# Altium integrated library Microchip Power Management Voltage Detector.IntLib: 122 symbols (part 3 of 4)
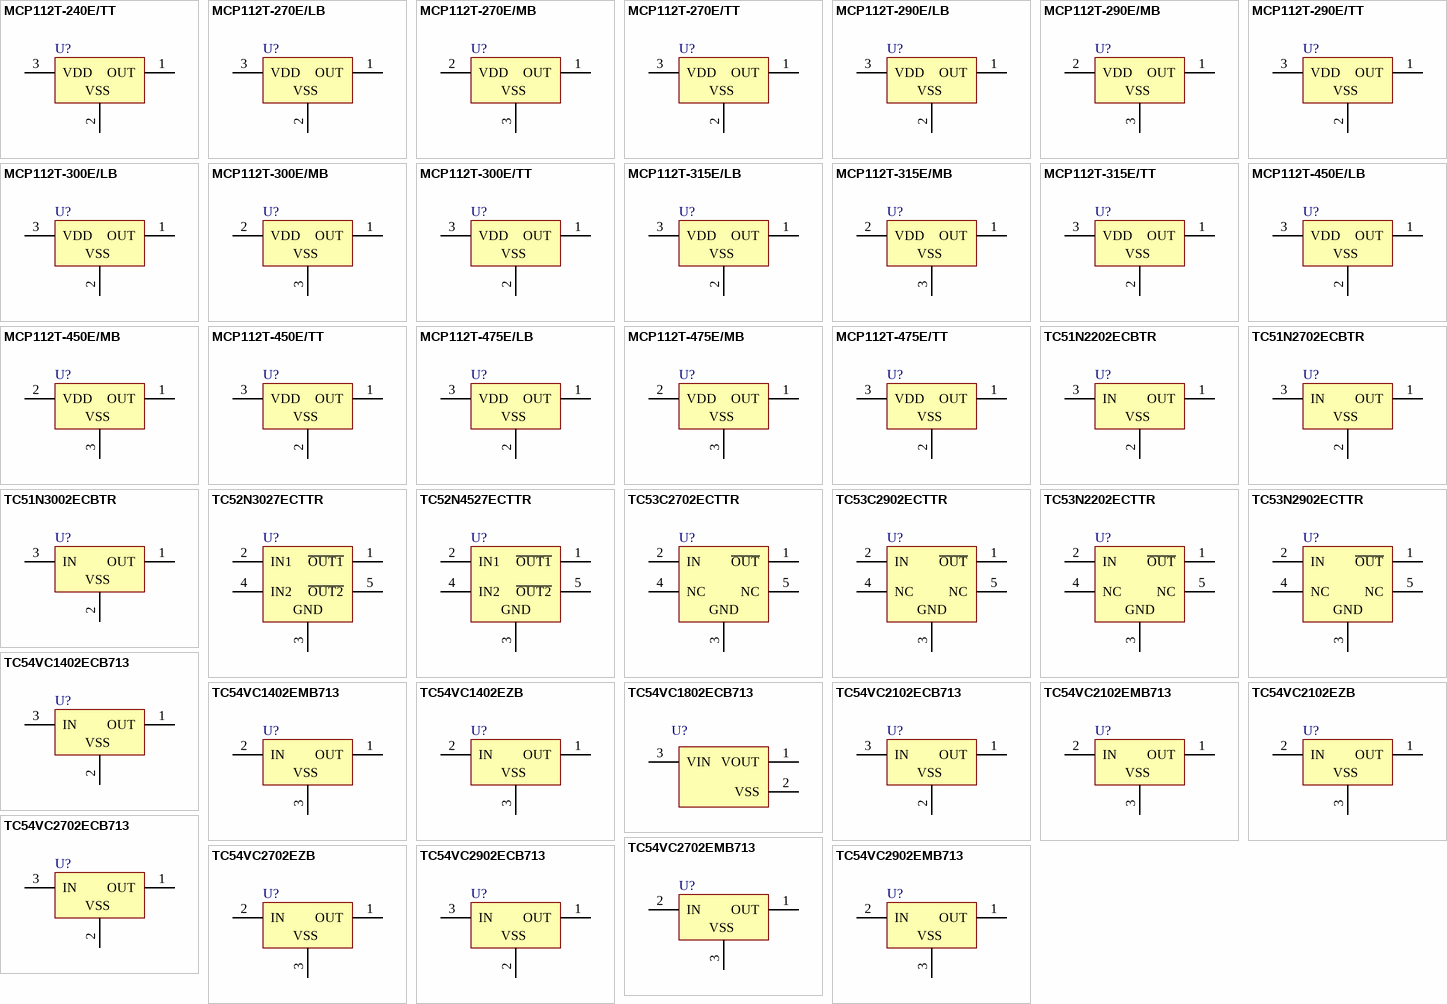
[diagram p5: symbols MCP112T-240E/TT to TC54VC2902EMB713]

## TC54VC2102ECB713
designator U?
1µA Voltage Detector, Push-Pull Output, 2.1V, 3-Pin SOT-23A, Industrial Temperature, Tape and Reel; Manufacturer: Microchip; PartNumber: TC54VC2102ECB713; DatasheetVersion: revH, Dec-2007; PackageVersion: revBB, Aug-2009; PackageReference: SOT-23A-CB3; PackageDescription: 3-Lead Plastic Small Outline Transistor (CB) [SOT-23A]; Supplier 1: Digi-Key; Supplier Part Number 1: TC54VC2102ECB713TR-ND; Supplier 2: Digi-Key; Supplier Part Number 2: TC54VC2102ECB713CT-ND; Supplier 3: Digi-Key; Supplier Part Number 3: TC54VC2102ECB713DKR-ND; Supplier 4: Farnell; Supplier Part Number 4: 1852219RL; Supplier 5: Farnell; Supplier Part Number 5: 1852219; Supplier 6: Newark; Supplier Part Number 6: 31T1381; Supplier 7: Newark; Supplier Part Number 7: 92C6249; Supplier 8: Mouser; Supplier Part Number 8: 579-TC54VC2102ECB713; Mounting Technology: Surface Mount; ComponentLink1Description: Manufacturer URL; ComponentLink1URL: http://www.microchip.com/; ComponentLink2Description: Datasheet; ComponentLink2URL: http://ww1.microchip.com/downloads/en/DeviceDoc/21434h.pdf; ComponentLink3Description: Package Specification; ComponentLink3URL: http://www.microchip.com/stellent/groups/techpub_sg/documents/packagingspec/en012702.pdf
footprint SOT-23A-CB3_N (SOT346, 3-Leads, Body 2.9x1.5mm, Pitch 0.95mm, Lead Span 2.6mm, IPC Medium Density)
footprint SOT-23A-CB3_L (SOT346, 3-Leads, Body 2.9x1.5mm, Pitch 0.95mm, Lead Span 2.6mm, IPC High Density)
footprint SOT-23A-CB3_M (SOT346, 3-Leads, Body 2.9x1.5mm, Pitch 0.95mm, Lead Span 2.6mm, IPC Low Density)
pins: 1 OUT (power), 2 VSS (power), 3 IN (power)

## TC54VC2102EMB713
designator U?
1µA Voltage Detector, Push-Pull Output, 2.1V, 3-Pin SOT-89, Industrial Temperature, Tape and Reel; Manufacturer: Microchip; PartNumber: TC54VC2102EMB713; DatasheetVersion: revH, Dec-2007; PackageVersion: revBB, Aug-2009; PackageReference: SOT-89-MB3; PackageDescription: 3-Lead Plastic Small Outline Transistor Header (MB) [SOT-89]; Supplier 1: Digi-Key; Supplier Part Number 1: TC54VC2102EMB713-ND; Supplier 2: Mouser; Supplier Part Number 2: 579-TC54VC2102EMB713; Mounting Technology: Surface Mount; Code_IPC: SOT89; ComponentLink1Description: Manufacturer URL; ComponentLink1URL: http://www.microchip.com/; ComponentLink2Description: Datasheet; ComponentLink2URL: http://ww1.microchip.com/downloads/en/DeviceDoc/21434h.pdf; ComponentLink3Description: Package Specification; ComponentLink3URL: http://www.microchip.com/stellent/groups/techpub_sg/documents/packagingspec/en012702.pdf
footprint SOT-89-MB3_N (SOT89, 3-Leads, Body 4.5x2.4 mm, Pitch 1.5mm, Lead Span 4.1mm, IPC Medium Density)
footprint SOT-89-MB3_L (SOT89, 3-Leads, Body 4.5x2.4 mm, Pitch 1.5mm, Lead Span 4.1mm, IPC High Density)
footprint SOT-89-MB3_M (SOT89, 3-Leads, Body 4.5x2.4 mm, Pitch 1.5mm, Lead Span 4.1mm, IPC Low Density)
pins: 1 OUT (power), 2 IN (power), 3 VSS (power)

## TC54VC2102EZB
designator U?
1µA Voltage Detector, Push-Pull Output, 2.1V, 3-Pin TO-92, Industrial Temperature; Manufacturer: Microchip; PartNumber: TC54VC2102EZB; DatasheetVersion: revH, Dec-2007; PackageVersion: revBB, Aug-2009; PackageReference: TO-92-ZB3; PackageDescription: 3-Lead Plastic Transistor Outline (ZB) [TO-92]; Supplier 1: Digi-Key; Supplier Part Number 1: TC54VC2102EZB-ND; Supplier 2: Farnell; Supplier Part Number 2: 1852221; Supplier 3: Newark; Supplier Part Number 3: 92C6251; Supplier 4: Mouser; Supplier Part Number 4: 579-TC54VC2102EZB; Mounting Technology: Through Hole; ComponentLink1Description: Manufacturer URL; ComponentLink1URL: http://www.microchip.com/; ComponentLink2Description: Datasheet; ComponentLink2URL: http://ww1.microchip.com/downloads/en/DeviceDoc/21434h.pdf; ComponentLink3Description: Package Specification; ComponentLink3URL: http://www.microchip.com/stellent/groups/techpub_sg/documents/packagingspec/en012702.pdf
footprint TO-92-ZB3 (TO, Flat Index; 3 In-Line, Axial Leads; Body Dia. 4.8mm; Leads 0.56 x 0.53 mm (max))
pins: 1 OUT (power), 2 IN (power), 3 VSS (power)

## TC54VC2702ECB713
designator U?
1µA Voltage Detector, Push-Pull Output, 2.7V, 3-Pin SOT-23A, Industrial Temperature, Tape and Reel; Manufacturer: Microchip; PartNumber: TC54VC2702ECB713; DatasheetVersion: revH, Dec-2007; PackageVersion: revBB, Aug-2009; PackageReference: SOT-23A-CB3; PackageDescription: 3-Lead Plastic Small Outline Transistor (CB) [SOT-23A]; Supplier 1: Digi-Key; Supplier Part Number 1: TC54VC2702ECB71TR-ND; Supplier 2: Digi-Key; Supplier Part Number 2: TC54VC2702ECB71CT-ND; Supplier 3: Digi-Key; Supplier Part Number 3: TC54VC2702ECB71DKR-ND; Supplier 4: Farnell; Supplier Part Number 4: 1557428; Supplier 5: Farnell; Supplier Part Number 5: 1557428RL; Supplier 6: Newark; Supplier Part Number 6: 92C6252; Supplier 7: Mouser; Supplier Part Number 7: 579-TC54VC2702ECB713; Mounting Technology: Surface Mount; ComponentLink1Description: Manufacturer URL; ComponentLink1URL: http://www.microchip.com/; ComponentLink2Description: Datasheet; ComponentLink2URL: http://ww1.microchip.com/downloads/en/DeviceDoc/21434h.pdf; ComponentLink3Description: Package Specification; ComponentLink3URL: http://www.microchip.com/stellent/groups/techpub_sg/documents/packagingspec/en012702.pdf
footprint SOT-23A-CB3_N (SOT346, 3-Leads, Body 2.9x1.5mm, Pitch 0.95mm, Lead Span 2.6mm, IPC Medium Density)
footprint SOT-23A-CB3_L (SOT346, 3-Leads, Body 2.9x1.5mm, Pitch 0.95mm, Lead Span 2.6mm, IPC High Density)
footprint SOT-23A-CB3_M (SOT346, 3-Leads, Body 2.9x1.5mm, Pitch 0.95mm, Lead Span 2.6mm, IPC Low Density)
pins: 1 OUT (power), 2 VSS (power), 3 IN (power)

## TC54VC2702EMB713
designator U?
1µA Voltage Detector, Push-Pull Output, 2.7V, 3-Pin SOT-89, Industrial Temperature, Tape and Reel; Manufacturer: Microchip; PartNumber: TC54VC2702EMB713; DatasheetVersion: revH, Dec-2007; PackageVersion: revBB, Aug-2009; PackageReference: SOT-89-MB3; PackageDescription: 3-Lead Plastic Small Outline Transistor Header (MB) [SOT-89]; Supplier 1: Digi-Key; Supplier Part Number 1: TC54VC2702EMB71TR-ND; Supplier 2: Digi-Key; Supplier Part Number 2: TC54VC2702EMB71CT-ND; Supplier 3: Mouser; Supplier Part Number 3: 579-TC54VC2702EMB713; Mounting Technology: Surface Mount; Code_IPC: SOT89; ComponentLink1Description: Manufacturer URL; ComponentLink1URL: http://www.microchip.com/; ComponentLink2Description: Datasheet; ComponentLink2URL: http://ww1.microchip.com/downloads/en/DeviceDoc/21434h.pdf; ComponentLink3Description: Package Specification; ComponentLink3URL: http://www.microchip.com/stellent/groups/techpub_sg/documents/packagingspec/en012702.pdf
footprint SOT-89-MB3_N (SOT89, 3-Leads, Body 4.5x2.4 mm, Pitch 1.5mm, Lead Span 4.1mm, IPC Medium Density)
footprint SOT-89-MB3_L (SOT89, 3-Leads, Body 4.5x2.4 mm, Pitch 1.5mm, Lead Span 4.1mm, IPC High Density)
footprint SOT-89-MB3_M (SOT89, 3-Leads, Body 4.5x2.4 mm, Pitch 1.5mm, Lead Span 4.1mm, IPC Low Density)
pins: 1 OUT (power), 2 IN (power), 3 VSS (power)

## TC54VC2702EZB
designator U?
1µA Voltage Detector, Push-Pull Output, 2.7V, 3-Pin TO-92, Industrial Temperature; Manufacturer: Microchip; PartNumber: TC54VC2702EZB; DatasheetVersion: revH, Dec-2007; PackageVersion: revBB, Aug-2009; PackageReference: TO-92-ZB3; PackageDescription: 3-Lead Plastic Transistor Outline (ZB) [TO-92]; Supplier 1: Digi-Key; Supplier Part Number 1: TC54VC2702EZB-ND; Supplier 2: Newark; Supplier Part Number 2: 92C6254; Supplier 3: Mouser; Supplier Part Number 3: 579-TC54VC2702EZB; Mounting Technology: Through Hole; ComponentLink1Description: Manufacturer URL; ComponentLink1URL: http://www.microchip.com/; ComponentLink2Description: Datasheet; ComponentLink2URL: http://ww1.microchip.com/downloads/en/DeviceDoc/21434h.pdf; ComponentLink3Description: Package Specification; ComponentLink3URL: http://www.microchip.com/stellent/groups/techpub_sg/documents/packagingspec/en012702.pdf
footprint TO-92-ZB3 (TO, Flat Index; 3 In-Line, Axial Leads; Body Dia. 4.8mm; Leads 0.56 x 0.53 mm (max))
pins: 1 OUT (power), 2 IN (power), 3 VSS (power)

## TC54VC2902ECB713
designator U?
1µA Voltage Detector, Push-Pull Output, 2.9V, 3-Pin SOT-23A, Industrial Temperature, Tape and Reel; Manufacturer: Microchip; PartNumber: TC54VC2902ECB713; DatasheetVersion: revH, Dec-2007; PackageVersion: revBB, Aug-2009; PackageReference: SOT-23A-CB3; PackageDescription: 3-Lead Plastic Small Outline Transistor (CB) [SOT-23A]; Supplier 1: Digi-Key; Supplier Part Number 1: TC54VC2902ECB71TR-ND; Supplier 2: Digi-Key; Supplier Part Number 2: TC54VC2902ECB71CT-ND; Supplier 3: Digi-Key; Supplier Part Number 3: TC54VC2902ECB71DKR-ND; Supplier 4: Farnell; Supplier Part Number 4: 1852223RL; Supplier 5: Farnell; Supplier Part Number 5: 1852223; Supplier 6: Newark; Supplier Part Number 6: 92C6255; Supplier 7: Newark; Supplier Part Number 7: 31T1382; Supplier 8: Mouser; Supplier Part Number 8: 579-TC54VC2902ECB713; Mounting Technology: Surface Mount; ComponentLink1Description: Manufacturer URL; ComponentLink1URL: http://www.microchip.com/; ComponentLink2Description: Datasheet; ComponentLink2URL: http://ww1.microchip.com/downloads/en/DeviceDoc/21434h.pdf; ComponentLink3Description: Package Specification; ComponentLink3URL: http://www.microchip.com/stellent/groups/techpub_sg/documents/packagingspec/en012702.pdf
footprint SOT-23A-CB3_N (SOT346, 3-Leads, Body 2.9x1.5mm, Pitch 0.95mm, Lead Span 2.6mm, IPC Medium Density)
footprint SOT-23A-CB3_L (SOT346, 3-Leads, Body 2.9x1.5mm, Pitch 0.95mm, Lead Span 2.6mm, IPC High Density)
footprint SOT-23A-CB3_M (SOT346, 3-Leads, Body 2.9x1.5mm, Pitch 0.95mm, Lead Span 2.6mm, IPC Low Density)
pins: 1 OUT (power), 2 VSS (power), 3 IN (power)

## TC54VC2902EMB713
designator U?
1µA Voltage Detector, Push-Pull Output, 2.9V, 3-Pin SOT-89, Industrial Temperature, Tape and Reel; Manufacturer: Microchip; PartNumber: TC54VC2902EMB713; DatasheetVersion: revH, Dec-2007; PackageVersion: revBB, Aug-2009; PackageReference: SOT-89-MB3; PackageDescription: 3-Lead Plastic Small Outline Transistor Header (MB) [SOT-89]; Supplier 1: Digi-Key; Supplier Part Number 1: TC54VC2902EMB71TR-ND; Supplier 2: Mouser; Supplier Part Number 2: 579-TC54VC2902EMB713; Mounting Technology: Surface Mount; Code_IPC: SOT89; ComponentLink1Description: Manufacturer URL; ComponentLink1URL: http://www.microchip.com/; ComponentLink2Description: Datasheet; ComponentLink2URL: http://ww1.microchip.com/downloads/en/DeviceDoc/21434h.pdf; ComponentLink3Description: Package Specification; ComponentLink3URL: http://www.microchip.com/stellent/groups/techpub_sg/documents/packagingspec/en012702.pdf
footprint SOT-89-MB3_N (SOT89, 3-Leads, Body 4.5x2.4 mm, Pitch 1.5mm, Lead Span 4.1mm, IPC Medium Density)
footprint SOT-89-MB3_L (SOT89, 3-Leads, Body 4.5x2.4 mm, Pitch 1.5mm, Lead Span 4.1mm, IPC High Density)
footprint SOT-89-MB3_M (SOT89, 3-Leads, Body 4.5x2.4 mm, Pitch 1.5mm, Lead Span 4.1mm, IPC Low Density)
pins: 1 OUT (power), 2 IN (power), 3 VSS (power)

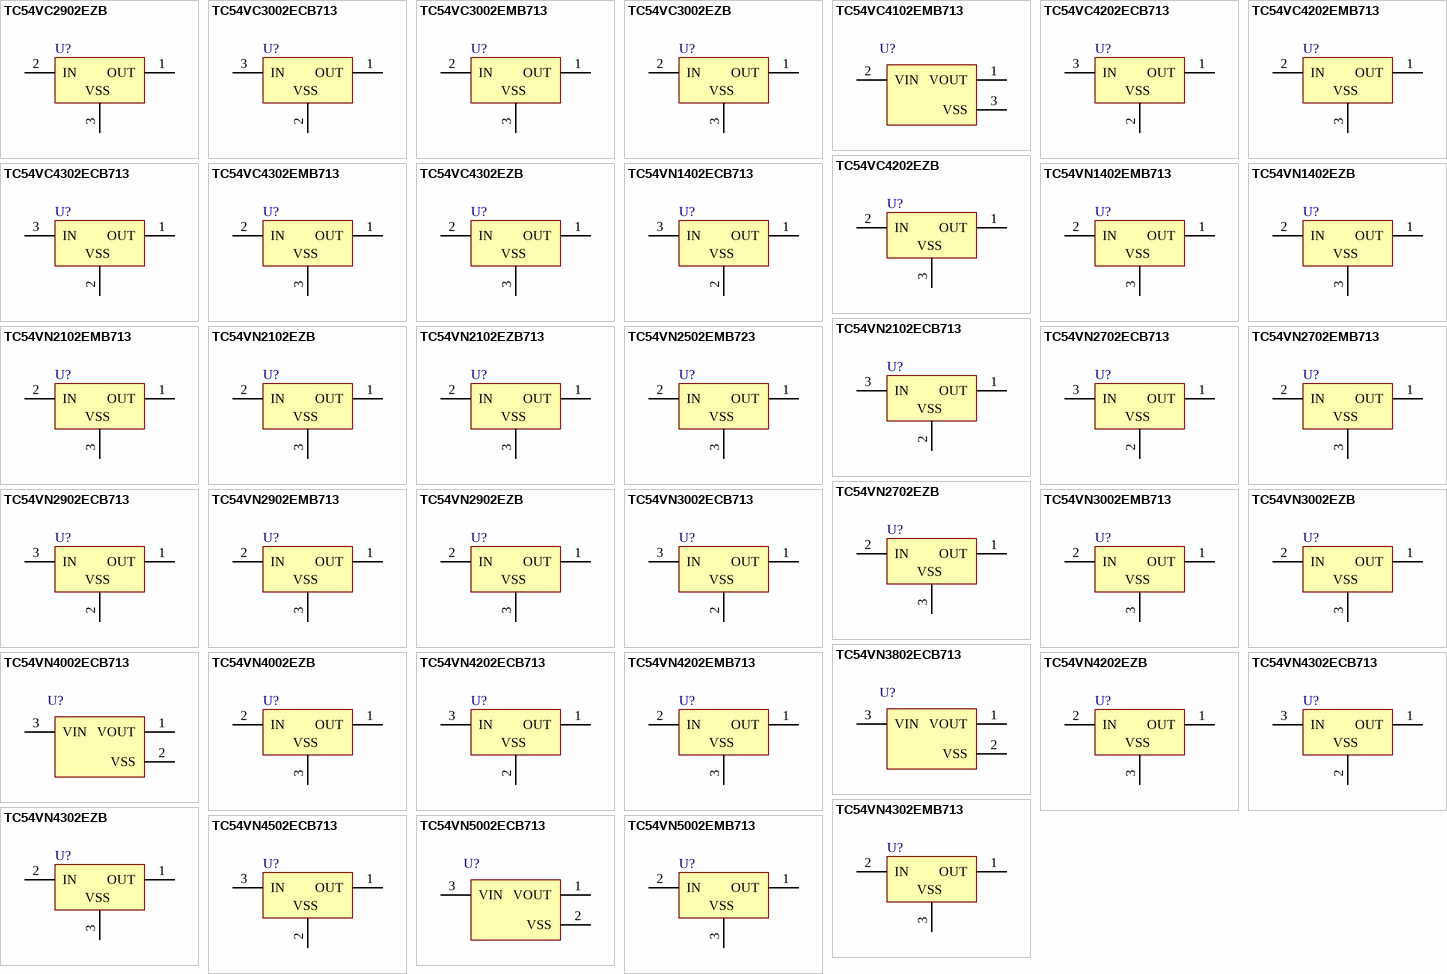
[diagram p2: symbols TC54VC2902EZB to TC54VN5002EMB713]

## TC54VC2902EZB
designator U?
1µA Voltage Detector, Push-Pull Output, 2.9V, 3-Pin TO-92, Industrial Temperature; Manufacturer: Microchip; PartNumber: TC54VC2902EZB; DatasheetVersion: revH, Dec-2007; PackageVersion: revBB, Aug-2009; PackageReference: TO-92-ZB3; PackageDescription: 3-Lead Plastic Transistor Outline (ZB) [TO-92]; Supplier 1: Digi-Key; Supplier Part Number 1: TC54VC2902EZB-ND; Supplier 2: Mouser; Supplier Part Number 2: 579-TC54VC2902EZB; Mounting Technology: Through Hole; ComponentLink1Description: Manufacturer URL; ComponentLink1URL: http://www.microchip.com/; ComponentLink2Description: Datasheet; ComponentLink2URL: http://ww1.microchip.com/downloads/en/DeviceDoc/21434h.pdf; ComponentLink3Description: Package Specification; ComponentLink3URL: http://www.microchip.com/stellent/groups/techpub_sg/documents/packagingspec/en012702.pdf
footprint TO-92-ZB3 (TO, Flat Index; 3 In-Line, Axial Leads; Body Dia. 4.8mm; Leads 0.56 x 0.53 mm (max))
pins: 1 OUT (power), 2 IN (power), 3 VSS (power)

## TC54VC3002ECB713
designator U?
1µA Voltage Detector, Push-Pull Output, 3.0V, 3-Pin SOT-23A, Industrial Temperature, Tape and Reel; Manufacturer: Microchip; PartNumber: TC54VC3002ECB713; DatasheetVersion: revH, Dec-2007; PackageVersion: revBB, Aug-2009; PackageReference: SOT-23A-CB3; PackageDescription: 3-Lead Plastic Small Outline Transistor (CB) [SOT-23A]; Supplier 1: Digi-Key; Supplier Part Number 1: TC54VC3002ECB713TR-ND; Supplier 2: Digi-Key; Supplier Part Number 2: TC54VC3002ECB713CT-ND; Supplier 3: Digi-Key; Supplier Part Number 3: TC54VC3002ECB713DKR-ND; Supplier 4: Farnell; Supplier Part Number 4: 1852224RL; Supplier 5: Farnell; Supplier Part Number 5: 1852224; Supplier 6: Newark; Supplier Part Number 6: 31T1383; Supplier 7: Newark; Supplier Part Number 7: 92C6257; Supplier 8: Mouser; Supplier Part Number 8: 579-TC54VC3002ECB713; Mounting Technology: Surface Mount; ComponentLink1Description: Manufacturer URL; ComponentLink1URL: http://www.microchip.com/; ComponentLink2Description: Datasheet; ComponentLink2URL: http://ww1.microchip.com/downloads/en/DeviceDoc/21434h.pdf; ComponentLink3Description: Package Specification; ComponentLink3URL: http://www.microchip.com/stellent/groups/techpub_sg/documents/packagingspec/en012702.pdf
footprint SOT-23A-CB3_N (SOT346, 3-Leads, Body 2.9x1.5mm, Pitch 0.95mm, Lead Span 2.6mm, IPC Medium Density)
footprint SOT-23A-CB3_L (SOT346, 3-Leads, Body 2.9x1.5mm, Pitch 0.95mm, Lead Span 2.6mm, IPC High Density)
footprint SOT-23A-CB3_M (SOT346, 3-Leads, Body 2.9x1.5mm, Pitch 0.95mm, Lead Span 2.6mm, IPC Low Density)
pins: 1 OUT (power), 2 VSS (power), 3 IN (power)

## TC54VC3002EMB713
designator U?
1µA Voltage Detector, Push-Pull Output, 3.0V, 3-Pin SOT-89, Industrial Temperature, Tape and Reel; Manufacturer: Microchip; PartNumber: TC54VC3002EMB713; DatasheetVersion: revH, Dec-2007; PackageVersion: revBB, Aug-2009; PackageReference: SOT-89-MB3; PackageDescription: 3-Lead Plastic Small Outline Transistor Header (MB) [SOT-89]; Supplier 1: Digi-Key; Supplier Part Number 1: TC54VC3002EMB713-ND; Supplier 2: Mouser; Supplier Part Number 2: 579-TC54VC3002EMB713; Mounting Technology: Surface Mount; Code_IPC: SOT89; ComponentLink1Description: Manufacturer URL; ComponentLink1URL: http://www.microchip.com/; ComponentLink2Description: Datasheet; ComponentLink2URL: http://ww1.microchip.com/downloads/en/DeviceDoc/21434h.pdf; ComponentLink3Description: Package Specification; ComponentLink3URL: http://www.microchip.com/stellent/groups/techpub_sg/documents/packagingspec/en012702.pdf
footprint SOT-89-MB3_N (SOT89, 3-Leads, Body 4.5x2.4 mm, Pitch 1.5mm, Lead Span 4.1mm, IPC Medium Density)
footprint SOT-89-MB3_L (SOT89, 3-Leads, Body 4.5x2.4 mm, Pitch 1.5mm, Lead Span 4.1mm, IPC High Density)
footprint SOT-89-MB3_M (SOT89, 3-Leads, Body 4.5x2.4 mm, Pitch 1.5mm, Lead Span 4.1mm, IPC Low Density)
pins: 1 OUT (power), 2 IN (power), 3 VSS (power)

## TC54VC3002EZB
designator U?
1µA Voltage Detector, Push-Pull Output, 3.0V, 3-Pin TO-92, Industrial Temperature; Manufacturer: Microchip; PartNumber: TC54VC3002EZB; DatasheetVersion: revH, Dec-2007; PackageVersion: revBB, Aug-2009; PackageReference: TO-92-ZB3; PackageDescription: 3-Lead Plastic Transistor Outline (ZB) [TO-92]; Supplier 1: Digi-Key; Supplier Part Number 1: TC54VC3002EZB-ND; Supplier 2: Farnell; Supplier Part Number 2: 1852225; Supplier 3: Newark; Supplier Part Number 3: 92C6259; Supplier 4: Mouser; Supplier Part Number 4: 579-TC54VC3002EZB; Mounting Technology: Through Hole; ComponentLink1Description: Manufacturer URL; ComponentLink1URL: http://www.microchip.com/; ComponentLink2Description: Datasheet; ComponentLink2URL: http://ww1.microchip.com/downloads/en/DeviceDoc/21434h.pdf; ComponentLink3Description: Package Specification; ComponentLink3URL: http://www.microchip.com/stellent/groups/techpub_sg/documents/packagingspec/en012702.pdf
footprint TO-92-ZB3 (TO, Flat Index; 3 In-Line, Axial Leads; Body Dia. 4.8mm; Leads 0.56 x 0.53 mm (max))
pins: 1 OUT (power), 2 IN (power), 3 VSS (power)

## TC54VC4102EMB713
designator U?
Voltage Detector, 0.2 ms Reset Pulse Width, Supply Current 1.1 uA, 0.7 to 10 V, -40 to 85 degC, 3-pin SOT-89 (MB3), Tape and Reel; Manufacturer: Microchip; PartNumber: TC54VC4102EMB713; DatasheetVersion: Rev. J; PackageVersion: C04-029B; PackageReference: SOT-89-MB3; PackageDescription: 3-Lead Plastic Small Outline Transistor Header, 4.5 x 2.45 mm Body, 1.5 mm Pitch; Supplier 1: Digi-Key; Supplier Part Number 1: TC54VC4102EMB713-ND; Supplier 2: Mouser; Supplier Part Number 2: 579-TC54VC4102EMB713; Mounting Technology: Surface Mount; ComponentLink1Description: Manufacturer URL; ComponentLink1URL: http://www.microchip.com; ComponentLink2Description: Datasheet; ComponentLink2URL: http://ww1.microchip.com/downloads/en/DeviceDoc/21434J.pdf; ComponentLink3Description: Package Specification; ComponentLink3URL: http://www.microchip.com/stellent/groups/techpub_sg/documents/packagingspec/en012702.pdf; ComponentLink4Description: Product URL; ComponentLink4URL: http://www.microchip.com/TC54
footprint MCHP-SOT-89-MB3_N (SOT89, 3-Leads, Body 4.5x2.45mm, Pitch 1.5mm, IPC Medium Density)
footprint MCHP-SOT-89-MB3_L (SOT89, 3-Leads, Body 4.5x2.45mm, Pitch 1.5mm, IPC High Density)
footprint MCHP-SOT-89-MB3_M (SOT89, 3-Leads, Body 4.5x2.45mm, Pitch 1.5mm, IPC Low Density)
pins: 1 VOUT (power) "Digital Output", 2 VIN (power) "Analog Input", 3 VSS (power) "Ground Terminal"

## TC54VC4202ECB713
designator U?
1µA Voltage Detector, Push-Pull Output, 4.2V, 3-Pin SOT-23A, Industrial Temperature, Tape and Reel; Manufacturer: Microchip; PartNumber: TC54VC4202ECB713; DatasheetVersion: revH, Dec-2007; PackageVersion: revBB, Aug-2009; PackageReference: SOT-23A-CB3; PackageDescription: 3-Lead Plastic Small Outline Transistor (CB) [SOT-23A]; Supplier 1: Digi-Key; Supplier Part Number 1: TC54VC4202ECB713-ND; Supplier 2: Mouser; Supplier Part Number 2: 579-TC54VC4202ECB713; Mounting Technology: Surface Mount; ComponentLink1Description: Manufacturer URL; ComponentLink1URL: http://www.microchip.com/; ComponentLink2Description: Datasheet; ComponentLink2URL: http://ww1.microchip.com/downloads/en/DeviceDoc/21434h.pdf; ComponentLink3Description: Package Specification; ComponentLink3URL: http://www.microchip.com/stellent/groups/techpub_sg/documents/packagingspec/en012702.pdf
footprint SOT-23A-CB3_N (SOT346, 3-Leads, Body 2.9x1.5mm, Pitch 0.95mm, Lead Span 2.6mm, IPC Medium Density)
footprint SOT-23A-CB3_L (SOT346, 3-Leads, Body 2.9x1.5mm, Pitch 0.95mm, Lead Span 2.6mm, IPC High Density)
footprint SOT-23A-CB3_M (SOT346, 3-Leads, Body 2.9x1.5mm, Pitch 0.95mm, Lead Span 2.6mm, IPC Low Density)
pins: 1 OUT (power), 2 VSS (power), 3 IN (power)

## TC54VC4202EMB713
designator U?
1µA Voltage Detector, Push-Pull Output, 4.2V, 3-Pin SOT-89, Industrial Temperature, Tape and Reel; Manufacturer: Microchip; PartNumber: TC54VC4202EMB713; DatasheetVersion: revH, Dec-2007; PackageVersion: revBB, Aug-2009; PackageReference: SOT-89-MB3; PackageDescription: 3-Lead Plastic Small Outline Transistor Header (MB) [SOT-89]; Supplier 1: Digi-Key; Supplier Part Number 1: TC54VC4202EMB713-ND; Supplier 2: Mouser; Supplier Part Number 2: 579-TC54VC4202EMB713; Mounting Technology: Surface Mount; Code_IPC: SOT89; ComponentLink1Description: Manufacturer URL; ComponentLink1URL: http://www.microchip.com/; ComponentLink2Description: Datasheet; ComponentLink2URL: http://ww1.microchip.com/downloads/en/DeviceDoc/21434h.pdf; ComponentLink3Description: Package Specification; ComponentLink3URL: http://www.microchip.com/stellent/groups/techpub_sg/documents/packagingspec/en012702.pdf
footprint SOT-89-MB3_N (SOT89, 3-Leads, Body 4.5x2.4 mm, Pitch 1.5mm, Lead Span 4.1mm, IPC Medium Density)
footprint SOT-89-MB3_L (SOT89, 3-Leads, Body 4.5x2.4 mm, Pitch 1.5mm, Lead Span 4.1mm, IPC High Density)
footprint SOT-89-MB3_M (SOT89, 3-Leads, Body 4.5x2.4 mm, Pitch 1.5mm, Lead Span 4.1mm, IPC Low Density)
pins: 1 OUT (power), 2 IN (power), 3 VSS (power)

## TC54VC4202EZB
designator U?
1µA Voltage Detector, Push-Pull Output, 4.2V, 3-Pin TO-92, Industrial Temperature; Manufacturer: Microchip; PartNumber: TC54VC4202EZB; DatasheetVersion: revH, Dec-2007; PackageVersion: revBB, Aug-2009; PackageReference: TO-92-ZB3; PackageDescription: 3-Lead Plastic Transistor Outline (ZB) [TO-92]; Supplier 1: Digi-Key; Supplier Part Number 1: TC54VC4202EZB-ND; Supplier 2: Mouser; Supplier Part Number 2: 579-TC54VC4202EZB; Mounting Technology: Through Hole; ComponentLink1Description: Manufacturer URL; ComponentLink1URL: http://www.microchip.com/; ComponentLink2Description: Datasheet; ComponentLink2URL: http://ww1.microchip.com/downloads/en/DeviceDoc/21434h.pdf; ComponentLink3Description: Package Specification; ComponentLink3URL: http://www.microchip.com/stellent/groups/techpub_sg/documents/packagingspec/en012702.pdf
footprint TO-92-ZB3 (TO, Flat Index; 3 In-Line, Axial Leads; Body Dia. 4.8mm; Leads 0.56 x 0.53 mm (max))
pins: 1 OUT (power), 2 IN (power), 3 VSS (power)

## TC54VC4302ECB713
designator U?
1µA Voltage Detector, Push-Pull Output, 4.3V, 3-Pin SOT-23A, Industrial Temperature, Tape and Reel; Manufacturer: Microchip; PartNumber: TC54VC4302ECB713; DatasheetVersion: revH, Dec-2007; PackageVersion: revBB, Aug-2009; PackageReference: SOT-23A-CB3; PackageDescription: 3-Lead Plastic Small Outline Transistor (CB) [SOT-23A]; Supplier 1: Digi-Key; Supplier Part Number 1: TC54VC4302ECB71TR-ND; Supplier 2: Digi-Key; Supplier Part Number 2: TC54VC4302ECB71CT-ND; Supplier 3: Digi-Key; Supplier Part Number 3: TC54VC4302ECB71DKR-ND; Supplier 4: Farnell; Supplier Part Number 4: 1467834RL; Supplier 5: Farnell; Supplier Part Number 5: 1467834; Supplier 6: Newark; Supplier Part Number 6: 92C3492; Supplier 7: Mouser; Supplier Part Number 7: 579-TC54VC4302ECB713; Mounting Technology: Surface Mount; ComponentLink1Description: Manufacturer URL; ComponentLink1URL: http://www.microchip.com/; ComponentLink2Description: Datasheet; ComponentLink2URL: http://ww1.microchip.com/downloads/en/DeviceDoc/21434h.pdf; ComponentLink3Description: Package Specification; ComponentLink3URL: http://www.microchip.com/stellent/groups/techpub_sg/documents/packagingspec/en012702.pdf
footprint SOT-23A-CB3_N (SOT346, 3-Leads, Body 2.9x1.5mm, Pitch 0.95mm, Lead Span 2.6mm, IPC Medium Density)
footprint SOT-23A-CB3_L (SOT346, 3-Leads, Body 2.9x1.5mm, Pitch 0.95mm, Lead Span 2.6mm, IPC High Density)
footprint SOT-23A-CB3_M (SOT346, 3-Leads, Body 2.9x1.5mm, Pitch 0.95mm, Lead Span 2.6mm, IPC Low Density)
pins: 1 OUT (power), 2 VSS (power), 3 IN (power)

## TC54VC4302EMB713
designator U?
1µA Voltage Detector, Push-Pull Output, 4.3V, 3-Pin SOT-89, Industrial Temperature, Tape and Reel; Manufacturer: Microchip; PartNumber: TC54VC4302EMB713; DatasheetVersion: revH, Dec-2007; PackageVersion: revBB, Aug-2009; PackageReference: SOT-89-MB3; PackageDescription: 3-Lead Plastic Small Outline Transistor Header (MB) [SOT-89]; Supplier 1: Digi-Key; Supplier Part Number 1: TC54VC4302EMB71TR-ND; Supplier 2: Digi-Key; Supplier Part Number 2: TC54VC4302EMB71CT-ND; Supplier 3: Digi-Key; Supplier Part Number 3: TC54VC4302EMB71DKR-ND; Supplier 4: Newark; Supplier Part Number 4: 92C6263; Supplier 5: Mouser; Supplier Part Number 5: 579-TC54VC4302EMB713; Mounting Technology: Surface Mount; Code_IPC: SOT89; ComponentLink1Description: Manufacturer URL; ComponentLink1URL: http://www.microchip.com/; ComponentLink2Description: Datasheet; ComponentLink2URL: http://ww1.microchip.com/downloads/en/DeviceDoc/21434h.pdf; ComponentLink3Description: Package Specification; ComponentLink3URL: http://www.microchip.com/stellent/groups/techpub_sg/documents/packagingspec/en012702.pdf
footprint SOT-89-MB3_N (SOT89, 3-Leads, Body 4.5x2.4 mm, Pitch 1.5mm, Lead Span 4.1mm, IPC Medium Density)
footprint SOT-89-MB3_L (SOT89, 3-Leads, Body 4.5x2.4 mm, Pitch 1.5mm, Lead Span 4.1mm, IPC High Density)
footprint SOT-89-MB3_M (SOT89, 3-Leads, Body 4.5x2.4 mm, Pitch 1.5mm, Lead Span 4.1mm, IPC Low Density)
pins: 1 OUT (power), 2 IN (power), 3 VSS (power)

## TC54VC4302EZB
designator U?
1µA Voltage Detector, Push-Pull Output, 4.3V, 3-Pin TO-92, Industrial Temperature; Manufacturer: Microchip; PartNumber: TC54VC4302EZB; DatasheetVersion: revH, Dec-2007; PackageVersion: revBB, Aug-2009; PackageReference: TO-92-ZB3; PackageDescription: 3-Lead Plastic Transistor Outline (ZB) [TO-92]; Supplier 1: Digi-Key; Supplier Part Number 1: TC54VC4302EZB-ND; Supplier 2: Farnell; Supplier Part Number 2: 1852226; Supplier 3: Newark; Supplier Part Number 3: 92C6264; Supplier 4: Mouser; Supplier Part Number 4: 579-TC54VC4302EZB; Mounting Technology: Through Hole; ComponentLink1Description: Manufacturer URL; ComponentLink1URL: http://www.microchip.com/; ComponentLink2Description: Datasheet; ComponentLink2URL: http://ww1.microchip.com/downloads/en/DeviceDoc/21434h.pdf; ComponentLink3Description: Package Specification; ComponentLink3URL: http://www.microchip.com/stellent/groups/techpub_sg/documents/packagingspec/en012702.pdf
footprint TO-92-ZB3 (TO, Flat Index; 3 In-Line, Axial Leads; Body Dia. 4.8mm; Leads 0.56 x 0.53 mm (max))
pins: 1 OUT (power), 2 IN (power), 3 VSS (power)

## TC54VN1402ECB713
designator U?
1µA Voltage Detector, Open-Drain Output, 1.4V, 3-Pin SOT-23A, Industrial Temperature, Tape and Reel; Manufacturer: Microchip; PartNumber: TC54VN1402ECB713; DatasheetVersion: revH, Dec-2007; PackageVersion: revBB, Aug-2009; PackageReference: SOT-23A-CB3; PackageDescription: 3-Lead Plastic Small Outline Transistor (CB) [SOT-23A]; Supplier 1: Digi-Key; Supplier Part Number 1: TC54VN1402ECB713TR-ND; Supplier 2: Digi-Key; Supplier Part Number 2: TC54VN1402ECB713CT-ND; Supplier 3: Digi-Key; Supplier Part Number 3: TC54VN1402ECB713DKR-ND; Supplier 4: Farnell; Supplier Part Number 4: 1852228; Supplier 5: Farnell; Supplier Part Number 5: 1852228RL; Supplier 6: Newark; Supplier Part Number 6: 31T1385; Supplier 7: Newark; Supplier Part Number 7: 92C6271; Supplier 8: Mouser; Supplier Part Number 8: 579-TC54VN1402ECB713; Mounting Technology: Surface Mount; ComponentLink1Description: Manufacturer URL; ComponentLink1URL: http://www.microchip.com/; ComponentLink2Description: Datasheet; ComponentLink2URL: http://ww1.microchip.com/downloads/en/DeviceDoc/21434h.pdf; ComponentLink3Description: Package Specification; ComponentLink3URL: http://www.microchip.com/stellent/groups/techpub_sg/documents/packagingspec/en012702.pdf
footprint SOT-23A-CB3_N (SOT346, 3-Leads, Body 2.9x1.5mm, Pitch 0.95mm, Lead Span 2.6mm, IPC Medium Density)
footprint SOT-23A-CB3_L (SOT346, 3-Leads, Body 2.9x1.5mm, Pitch 0.95mm, Lead Span 2.6mm, IPC High Density)
footprint SOT-23A-CB3_M (SOT346, 3-Leads, Body 2.9x1.5mm, Pitch 0.95mm, Lead Span 2.6mm, IPC Low Density)
pins: 1 OUT (power), 2 VSS (power), 3 IN (power)

## TC54VN1402EMB713
designator U?
1µA Voltage Detector, Open-Drain Output, 1.4V, 3-Pin SOT-89, Industrial Temperature, Tape and Reel; Manufacturer: Microchip; PartNumber: TC54VN1402EMB713; DatasheetVersion: revH, Dec-2007; PackageVersion: revBB, Aug-2009; PackageReference: SOT-89-MB3; PackageDescription: 3-Lead Plastic Small Outline Transistor Header (MB) [SOT-89]; Supplier 1: Digi-Key; Supplier Part Number 1: TC54VN1402EMB713-ND; Supplier 2: Mouser; Supplier Part Number 2: 579-TC54VN1402EMB713; Mounting Technology: Surface Mount; Code_IPC: SOT89; ComponentLink1Description: Manufacturer URL; ComponentLink1URL: http://www.microchip.com/; ComponentLink2Description: Datasheet; ComponentLink2URL: http://ww1.microchip.com/downloads/en/DeviceDoc/21434h.pdf; ComponentLink3Description: Package Specification; ComponentLink3URL: http://www.microchip.com/stellent/groups/techpub_sg/documents/packagingspec/en012702.pdf
footprint SOT-89-MB3_N (SOT89, 3-Leads, Body 4.5x2.4 mm, Pitch 1.5mm, Lead Span 4.1mm, IPC Medium Density)
footprint SOT-89-MB3_L (SOT89, 3-Leads, Body 4.5x2.4 mm, Pitch 1.5mm, Lead Span 4.1mm, IPC High Density)
footprint SOT-89-MB3_M (SOT89, 3-Leads, Body 4.5x2.4 mm, Pitch 1.5mm, Lead Span 4.1mm, IPC Low Density)
pins: 1 OUT (power), 2 IN (power), 3 VSS (power)

## TC54VN1402EZB
designator U?
1µA Voltage Detector, Open-Drain Output, 1.4V, 3-Pin TO-92, Industrial Temperature; Manufacturer: Microchip; PartNumber: TC54VN1402EZB; DatasheetVersion: revH, Dec-2007; PackageVersion: revBB, Aug-2009; PackageReference: TO-92-ZB3; PackageDescription: 3-Lead Plastic Transistor Outline (ZB) [TO-92]; Supplier 1: Digi-Key; Supplier Part Number 1: TC54VN1402EZB-ND; Supplier 2: Farnell; Supplier Part Number 2: 1852229; Supplier 3: Newark; Supplier Part Number 3: 92C6273; Supplier 4: Mouser; Supplier Part Number 4: 579-TC54VN1402EZB; Mounting Technology: Through Hole; ComponentLink1Description: Manufacturer URL; ComponentLink1URL: http://www.microchip.com/; ComponentLink2Description: Datasheet; ComponentLink2URL: http://ww1.microchip.com/downloads/en/DeviceDoc/21434h.pdf; ComponentLink3Description: Package Specification; ComponentLink3URL: http://www.microchip.com/stellent/groups/techpub_sg/documents/packagingspec/en012702.pdf
footprint TO-92-ZB3 (TO, Flat Index; 3 In-Line, Axial Leads; Body Dia. 4.8mm; Leads 0.56 x 0.53 mm (max))
pins: 1 OUT (power), 2 IN (power), 3 VSS (power)

## TC54VN2102ECB713
designator U?
1µA Voltage Detector, Open-Drain Output, 2.1V, 3-Pin SOT-23A, Industrial Temperature, Tape and Reel; Manufacturer: Microchip; PartNumber: TC54VN2102ECB713; DatasheetVersion: revH, Dec-2007; PackageVersion: revBB, Aug-2009; PackageReference: SOT-23A-CB3; PackageDescription: 3-Lead Plastic Small Outline Transistor (CB) [SOT-23A]; Supplier 1: Digi-Key; Supplier Part Number 1: TC54VN2102ECB713TR-ND; Supplier 2: Digi-Key; Supplier Part Number 2: TC54VN2102ECB713CT-ND; Supplier 3: Digi-Key; Supplier Part Number 3: TC54VN2102ECB713DKR-ND; Supplier 4: Farnell; Supplier Part Number 4: 1852230; Supplier 5: Farnell; Supplier Part Number 5: 1852230RL; Supplier 6: Newark; Supplier Part Number 6: 31T1386; Supplier 7: Newark; Supplier Part Number 7: 92C6274; Supplier 8: Mouser; Supplier Part Number 8: 579-TC54VN2102ECB713; Mounting Technology: Surface Mount; ComponentLink1Description: Manufacturer URL; ComponentLink1URL: http://www.microchip.com/; ComponentLink2Description: Datasheet; ComponentLink2URL: http://ww1.microchip.com/downloads/en/DeviceDoc/21434h.pdf; ComponentLink3Description: Package Specification; ComponentLink3URL: http://www.microchip.com/stellent/groups/techpub_sg/documents/packagingspec/en012702.pdf
footprint SOT-23A-CB3_N (SOT346, 3-Leads, Body 2.9x1.5mm, Pitch 0.95mm, Lead Span 2.6mm, IPC Medium Density)
footprint SOT-23A-CB3_L (SOT346, 3-Leads, Body 2.9x1.5mm, Pitch 0.95mm, Lead Span 2.6mm, IPC High Density)
footprint SOT-23A-CB3_M (SOT346, 3-Leads, Body 2.9x1.5mm, Pitch 0.95mm, Lead Span 2.6mm, IPC Low Density)
pins: 1 OUT (power), 2 VSS (power), 3 IN (power)

## TC54VN2102EMB713
designator U?
1µA Voltage Detector, Open-Drain Output, 2.1V, 3-Pin SOT-89, Industrial Temperature, Tape and Reel; Manufacturer: Microchip; PartNumber: TC54VN2102EMB713; DatasheetVersion: revH, Dec-2007; PackageVersion: revBB, Aug-2009; PackageReference: SOT-89-MB3; PackageDescription: 3-Lead Plastic Small Outline Transistor Header (MB) [SOT-89]; Supplier 1: Digi-Key; Supplier Part Number 1: TC54VN2102EMB71TR-ND; Supplier 2: Mouser; Supplier Part Number 2: 579-TC54VN2102EMB713; Mounting Technology: Surface Mount; Code_IPC: SOT89; ComponentLink1Description: Manufacturer URL; ComponentLink1URL: http://www.microchip.com/; ComponentLink2Description: Datasheet; ComponentLink2URL: http://ww1.microchip.com/downloads/en/DeviceDoc/21434h.pdf; ComponentLink3Description: Package Specification; ComponentLink3URL: http://www.microchip.com/stellent/groups/techpub_sg/documents/packagingspec/en012702.pdf
footprint SOT-89-MB3_N (SOT89, 3-Leads, Body 4.5x2.4 mm, Pitch 1.5mm, Lead Span 4.1mm, IPC Medium Density)
footprint SOT-89-MB3_L (SOT89, 3-Leads, Body 4.5x2.4 mm, Pitch 1.5mm, Lead Span 4.1mm, IPC High Density)
footprint SOT-89-MB3_M (SOT89, 3-Leads, Body 4.5x2.4 mm, Pitch 1.5mm, Lead Span 4.1mm, IPC Low Density)
pins: 1 OUT (power), 2 IN (power), 3 VSS (power)

## TC54VN2102EZB
designator U?
1µA Voltage Detector, Open-Drain Output, 2.1V, 3-Pin TO-92, Industrial Temperature; Manufacturer: Microchip; PartNumber: TC54VN2102EZB; DatasheetVersion: revH, Dec-2007; PackageVersion: revBB, Aug-2009; PackageReference: TO-92-ZB3; PackageDescription: 3-Lead Plastic Transistor Outline (ZB) [TO-92]; Supplier 1: Digi-Key; Supplier Part Number 1: TC54VN2102EZB-ND; Supplier 2: Farnell; Supplier Part Number 2: 1852232; Supplier 3: Newark; Supplier Part Number 3: 92C6276; Supplier 4: Mouser; Supplier Part Number 4: 579-TC54VN2102EZB; Mounting Technology: Through Hole; ComponentLink1Description: Manufacturer URL; ComponentLink1URL: http://www.microchip.com/; ComponentLink2Description: Datasheet; ComponentLink2URL: http://ww1.microchip.com/downloads/en/DeviceDoc/21434h.pdf; ComponentLink3Description: Package Specification; ComponentLink3URL: http://www.microchip.com/stellent/groups/techpub_sg/documents/packagingspec/en012702.pdf
footprint TO-92-ZB3 (TO, Flat Index; 3 In-Line, Axial Leads; Body Dia. 4.8mm; Leads 0.56 x 0.53 mm (max))
pins: 1 OUT (power), 2 IN (power), 3 VSS (power)

## TC54VN2102EZB713
designator U?
1µA Voltage Detector, Open-Drain Output, 2.1V, 3-Pin TO-92, Industrial Temperature, Tape and Reel; Manufacturer: Microchip; PartNumber: TC54VN2102EZB713; DatasheetVersion: revH, Dec-2007; PackageVersion: revBB, Aug-2009; PackageReference: TO-92-ZB3; PackageDescription: 3-Lead Plastic Transistor Outline (ZB) [TO-92]; Mounting Technology: Through Hole; ComponentLink1Description: Manufacturer URL; ComponentLink1URL: http://www.microchip.com/; ComponentLink2Description: Datasheet; ComponentLink2URL: http://ww1.microchip.com/downloads/en/DeviceDoc/21434h.pdf; ComponentLink3Description: Package Specification; ComponentLink3URL: http://www.microchip.com/stellent/groups/techpub_sg/documents/packagingspec/en012702.pdf
footprint TO-92-ZB3 (TO, Flat Index; 3 In-Line, Axial Leads; Body Dia. 4.8mm; Leads 0.56 x 0.53 mm (max))
pins: 1 OUT (power), 2 IN (power), 3 VSS (power)

## TC54VN2502EMB723
designator U?
1µA Voltage Detector, Open-Drain Output, 2.5V, 3-Pin SOT-89, Industrial Temperature, RV, Tape and Reel; Manufacturer: Microchip; PartNumber: TC54VN2502EMB723; DatasheetVersion: revH, Dec-2007; PackageVersion: revBB, Aug-2009; PackageReference: SOT-89-MB3; PackageDescription: 3-Lead Plastic Small Outline Transistor Header (MB) [SOT-89]; Mounting Technology: Surface Mount; Code_IPC: SOT89; ComponentLink1Description: Manufacturer URL; ComponentLink1URL: http://www.microchip.com/; ComponentLink2Description: Datasheet; ComponentLink2URL: http://ww1.microchip.com/downloads/en/DeviceDoc/21434h.pdf; ComponentLink3Description: Package Specification; ComponentLink3URL: http://www.microchip.com/stellent/groups/techpub_sg/documents/packagingspec/en012702.pdf
footprint SOT-89-MB3_N (SOT89, 3-Leads, Body 4.5x2.4 mm, Pitch 1.5mm, Lead Span 4.1mm, IPC Medium Density)
footprint SOT-89-MB3_L (SOT89, 3-Leads, Body 4.5x2.4 mm, Pitch 1.5mm, Lead Span 4.1mm, IPC High Density)
footprint SOT-89-MB3_M (SOT89, 3-Leads, Body 4.5x2.4 mm, Pitch 1.5mm, Lead Span 4.1mm, IPC Low Density)
pins: 1 OUT (power), 2 IN (power), 3 VSS (power)

## TC54VN2702ECB713
designator U?
1µA Voltage Detector, Open-Drain Output, 2.7V, 3-Pin SOT-23A, Industrial Temperature, Tape and Reel; Manufacturer: Microchip; PartNumber: TC54VN2702ECB713; DatasheetVersion: revH, Dec-2007; PackageVersion: revBB, Aug-2009; PackageReference: SOT-23A-CB3; PackageDescription: 3-Lead Plastic Small Outline Transistor (CB) [SOT-23A]; Supplier 1: Digi-Key; Supplier Part Number 1: TC54VN2702ECB71TR-ND; Supplier 2: Digi-Key; Supplier Part Number 2: TC54VN2702ECB71CT-ND; Supplier 3: Digi-Key; Supplier Part Number 3: TC54VN2702ECB71DKR-ND; Supplier 4: Farnell; Supplier Part Number 4: 1292289RL; Supplier 5: Farnell; Supplier Part Number 5: 1292289; Supplier 6: Newark; Supplier Part Number 6: 92C6277; Supplier 7: Mouser; Supplier Part Number 7: 579-TC54VN2702ECB713; Mounting Technology: Surface Mount; ComponentLink1Description: Manufacturer URL; ComponentLink1URL: http://www.microchip.com/; ComponentLink2Description: Datasheet; ComponentLink2URL: http://ww1.microchip.com/downloads/en/DeviceDoc/21434h.pdf; ComponentLink3Description: Package Specification; ComponentLink3URL: http://www.microchip.com/stellent/groups/techpub_sg/documents/packagingspec/en012702.pdf
footprint SOT-23A-CB3_N (SOT346, 3-Leads, Body 2.9x1.5mm, Pitch 0.95mm, Lead Span 2.6mm, IPC Medium Density)
footprint SOT-23A-CB3_L (SOT346, 3-Leads, Body 2.9x1.5mm, Pitch 0.95mm, Lead Span 2.6mm, IPC High Density)
footprint SOT-23A-CB3_M (SOT346, 3-Leads, Body 2.9x1.5mm, Pitch 0.95mm, Lead Span 2.6mm, IPC Low Density)
pins: 1 OUT (power), 2 VSS (power), 3 IN (power)

## TC54VN2702EMB713
designator U?
1µA Voltage Detector, Open-Drain Output, 2.7V, 3-Pin SOT-89, Industrial Temperature, Tape and Reel; Manufacturer: Microchip; PartNumber: TC54VN2702EMB713; DatasheetVersion: revH, Dec-2007; PackageVersion: revBB, Aug-2009; PackageReference: SOT-89-MB3; PackageDescription: 3-Lead Plastic Small Outline Transistor Header (MB) [SOT-89]; Supplier 1: Digi-Key; Supplier Part Number 1: TC54VN2702EMB71TR-ND; Supplier 2: Digi-Key; Supplier Part Number 2: TC54VN2702EMB71CT-ND; Supplier 3: Newark; Supplier Part Number 3: 92C6278; Supplier 4: Mouser; Supplier Part Number 4: 579-TC54VN2702EMB713; Mounting Technology: Surface Mount; Code_IPC: SOT89; ComponentLink1Description: Manufacturer URL; ComponentLink1URL: http://www.microchip.com/; ComponentLink2Description: Datasheet; ComponentLink2URL: http://ww1.microchip.com/downloads/en/DeviceDoc/21434h.pdf; ComponentLink3Description: Package Specification; ComponentLink3URL: http://www.microchip.com/stellent/groups/techpub_sg/documents/packagingspec/en012702.pdf
footprint SOT-89-MB3_N (SOT89, 3-Leads, Body 4.5x2.4 mm, Pitch 1.5mm, Lead Span 4.1mm, IPC Medium Density)
footprint SOT-89-MB3_L (SOT89, 3-Leads, Body 4.5x2.4 mm, Pitch 1.5mm, Lead Span 4.1mm, IPC High Density)
footprint SOT-89-MB3_M (SOT89, 3-Leads, Body 4.5x2.4 mm, Pitch 1.5mm, Lead Span 4.1mm, IPC Low Density)
pins: 1 OUT (power), 2 IN (power), 3 VSS (power)

## TC54VN2702EZB
designator U?
1µA Voltage Detector, Open-Drain Output, 2.7V, 3-Pin TO-92, Industrial Temperature; Manufacturer: Microchip; PartNumber: TC54VN2702EZB; DatasheetVersion: revH, Dec-2007; PackageVersion: revBB, Aug-2009; PackageReference: TO-92-ZB3; PackageDescription: 3-Lead Plastic Transistor Outline (ZB) [TO-92]; Supplier 1: Digi-Key; Supplier Part Number 1: TC54VN2702EZB-ND; Supplier 2: Farnell; Supplier Part Number 2: 1213078; Supplier 3: Newark; Supplier Part Number 3: 26M3938; Supplier 4: Mouser; Supplier Part Number 4: 579-TC54VN2702EZB; Mounting Technology: Through Hole; ComponentLink1Description: Manufacturer URL; ComponentLink1URL: http://www.microchip.com/; ComponentLink2Description: Datasheet; ComponentLink2URL: http://ww1.microchip.com/downloads/en/DeviceDoc/21434h.pdf; ComponentLink3Description: Package Specification; ComponentLink3URL: http://www.microchip.com/stellent/groups/techpub_sg/documents/packagingspec/en012702.pdf
footprint TO-92-ZB3 (TO, Flat Index; 3 In-Line, Axial Leads; Body Dia. 4.8mm; Leads 0.56 x 0.53 mm (max))
pins: 1 OUT (power), 2 IN (power), 3 VSS (power)

## TC54VN2902ECB713
designator U?
1µA Voltage Detector, Open-Drain Output, 2.9V, 3-Pin SOT-23A, Industrial Temperature, Tape and Reel; Manufacturer: Microchip; PartNumber: TC54VN2902ECB713; DatasheetVersion: revH, Dec-2007; PackageVersion: revBB, Aug-2009; PackageReference: SOT-23A-CB3; PackageDescription: 3-Lead Plastic Small Outline Transistor (CB) [SOT-23A]; Supplier 1: Digi-Key; Supplier Part Number 1: TC54VN2902ECB71TR-ND; Supplier 2: Digi-Key; Supplier Part Number 2: TC54VN2902ECB71CT-ND; Supplier 3: Digi-Key; Supplier Part Number 3: TC54VN2902ECB71DKR-ND; Supplier 4: Farnell; Supplier Part Number 4: 1467835; Supplier 5: Farnell; Supplier Part Number 5: 1467835RL; Supplier 6: Newark; Supplier Part Number 6: 92C6280; Supplier 7: Mouser; Supplier Part Number 7: 579-TC54VN2902ECB713; Mounting Technology: Surface Mount; ComponentLink1Description: Manufacturer URL; ComponentLink1URL: http://www.microchip.com/; ComponentLink2Description: Datasheet; ComponentLink2URL: http://ww1.microchip.com/downloads/en/DeviceDoc/21434h.pdf; ComponentLink3Description: Package Specification; ComponentLink3URL: http://www.microchip.com/stellent/groups/techpub_sg/documents/packagingspec/en012702.pdf
footprint SOT-23A-CB3_N (SOT346, 3-Leads, Body 2.9x1.5mm, Pitch 0.95mm, Lead Span 2.6mm, IPC Medium Density)
footprint SOT-23A-CB3_L (SOT346, 3-Leads, Body 2.9x1.5mm, Pitch 0.95mm, Lead Span 2.6mm, IPC High Density)
footprint SOT-23A-CB3_M (SOT346, 3-Leads, Body 2.9x1.5mm, Pitch 0.95mm, Lead Span 2.6mm, IPC Low Density)
pins: 1 OUT (power), 2 VSS (power), 3 IN (power)

## TC54VN2902EMB713
designator U?
1µA Voltage Detector, Open-Drain Output, 2.9V, 3-Pin SOT-89, Industrial Temperature, Tape and Reel; Manufacturer: Microchip; PartNumber: TC54VN2902EMB713; DatasheetVersion: revH, Dec-2007; PackageVersion: revBB, Aug-2009; PackageReference: SOT-89-MB3; PackageDescription: 3-Lead Plastic Small Outline Transistor Header (MB) [SOT-89]; Supplier 1: Digi-Key; Supplier Part Number 1: TC54VN2902EMB71TR-ND; Supplier 2: Digi-Key; Supplier Part Number 2: TC54VN2902EMB71CT-ND; Supplier 3: Mouser; Supplier Part Number 3: 579-TC54VN2902EMB713; Mounting Technology: Surface Mount; Code_IPC: SOT89; ComponentLink1Description: Manufacturer URL; ComponentLink1URL: http://www.microchip.com/; ComponentLink2Description: Datasheet; ComponentLink2URL: http://ww1.microchip.com/downloads/en/DeviceDoc/21434h.pdf; ComponentLink3Description: Package Specification; ComponentLink3URL: http://www.microchip.com/stellent/groups/techpub_sg/documents/packagingspec/en012702.pdf
footprint SOT-89-MB3_N (SOT89, 3-Leads, Body 4.5x2.4 mm, Pitch 1.5mm, Lead Span 4.1mm, IPC Medium Density)
footprint SOT-89-MB3_L (SOT89, 3-Leads, Body 4.5x2.4 mm, Pitch 1.5mm, Lead Span 4.1mm, IPC High Density)
footprint SOT-89-MB3_M (SOT89, 3-Leads, Body 4.5x2.4 mm, Pitch 1.5mm, Lead Span 4.1mm, IPC Low Density)
pins: 1 OUT (power), 2 IN (power), 3 VSS (power)

## TC54VN2902EZB
designator U?
1µA Voltage Detector, Open-Drain Output, 2.9V, 3-Pin TO-92, Industrial Temperature; Manufacturer: Microchip; PartNumber: TC54VN2902EZB; DatasheetVersion: revH, Dec-2007; PackageVersion: revBB, Aug-2009; PackageReference: TO-92-ZB3; PackageDescription: 3-Lead Plastic Transistor Outline (ZB) [TO-92]; Supplier 1: Digi-Key; Supplier Part Number 1: TC54VN2902EZB-ND; Supplier 2: Farnell; Supplier Part Number 2: 1825047; Supplier 3: Newark; Supplier Part Number 3: 12T8442; Supplier 4: Newark; Supplier Part Number 4: 92C6282; Supplier 5: Mouser; Supplier Part Number 5: 579-TC54VN2902EZB; Mounting Technology: Through Hole; ComponentLink1Description: Manufacturer URL; ComponentLink1URL: http://www.microchip.com/; ComponentLink2Description: Datasheet; ComponentLink2URL: http://ww1.microchip.com/downloads/en/DeviceDoc/21434h.pdf; ComponentLink3Description: Package Specification; ComponentLink3URL: http://www.microchip.com/stellent/groups/techpub_sg/documents/packagingspec/en012702.pdf
footprint TO-92-ZB3 (TO, Flat Index; 3 In-Line, Axial Leads; Body Dia. 4.8mm; Leads 0.56 x 0.53 mm (max))
pins: 1 OUT (power), 2 IN (power), 3 VSS (power)

## TC54VN3002ECB713
designator U?
1µA Voltage Detector, Open-Drain Output, 3.0V, 3-Pin SOT-23A, Industrial Temperature, Tape and Reel; Manufacturer: Microchip; PartNumber: TC54VN3002ECB713; DatasheetVersion: revH, Dec-2007; PackageVersion: revBB, Aug-2009; PackageReference: SOT-23A-CB3; PackageDescription: 3-Lead Plastic Small Outline Transistor (CB) [SOT-23A]; Supplier 1: Digi-Key; Supplier Part Number 1: TC54VN3002ECB71TR-ND; Supplier 2: Digi-Key; Supplier Part Number 2: TC54VN3002ECB71CT-ND; Supplier 3: Digi-Key; Supplier Part Number 3: TC54VN3002ECB71DKR-ND; Supplier 4: Farnell; Supplier Part Number 4: 1557409RL; Supplier 5: Farnell; Supplier Part Number 5: 1557409; Supplier 6: Newark; Supplier Part Number 6: 75K1579; Supplier 7: Mouser; Supplier Part Number 7: 579-TC54VN3002ECB713; Mounting Technology: Surface Mount; ComponentLink1Description: Manufacturer URL; ComponentLink1URL: http://www.microchip.com/; ComponentLink2Description: Datasheet; ComponentLink2URL: http://ww1.microchip.com/downloads/en/DeviceDoc/21434h.pdf; ComponentLink3Description: Package Specification; ComponentLink3URL: http://www.microchip.com/stellent/groups/techpub_sg/documents/packagingspec/en012702.pdf
footprint SOT-23A-CB3_N (SOT346, 3-Leads, Body 2.9x1.5mm, Pitch 0.95mm, Lead Span 2.6mm, IPC Medium Density)
footprint SOT-23A-CB3_L (SOT346, 3-Leads, Body 2.9x1.5mm, Pitch 0.95mm, Lead Span 2.6mm, IPC High Density)
footprint SOT-23A-CB3_M (SOT346, 3-Leads, Body 2.9x1.5mm, Pitch 0.95mm, Lead Span 2.6mm, IPC Low Density)
pins: 1 OUT (power), 2 VSS (power), 3 IN (power)

## TC54VN3002EMB713
designator U?
1µA Voltage Detector, Open-Drain Output, 3.0V, 3-Pin SOT-89, Industrial Temperature, Tape and Reel; Manufacturer: Microchip; PartNumber: TC54VN3002EMB713; DatasheetVersion: revH, Dec-2007; PackageVersion: revBB, Aug-2009; PackageReference: SOT-89-MB3; PackageDescription: 3-Lead Plastic Small Outline Transistor Header (MB) [SOT-89]; Supplier 1: Digi-Key; Supplier Part Number 1: TC54VN3002EMB713-ND; Supplier 2: Mouser; Supplier Part Number 2: 579-TC54VN3002EMB713; Mounting Technology: Surface Mount; Code_IPC: SOT89; ComponentLink1Description: Manufacturer URL; ComponentLink1URL: http://www.microchip.com/; ComponentLink2Description: Datasheet; ComponentLink2URL: http://ww1.microchip.com/downloads/en/DeviceDoc/21434h.pdf; ComponentLink3Description: Package Specification; ComponentLink3URL: http://www.microchip.com/stellent/groups/techpub_sg/documents/packagingspec/en012702.pdf
footprint SOT-89-MB3_N (SOT89, 3-Leads, Body 4.5x2.4 mm, Pitch 1.5mm, Lead Span 4.1mm, IPC Medium Density)
footprint SOT-89-MB3_L (SOT89, 3-Leads, Body 4.5x2.4 mm, Pitch 1.5mm, Lead Span 4.1mm, IPC High Density)
footprint SOT-89-MB3_M (SOT89, 3-Leads, Body 4.5x2.4 mm, Pitch 1.5mm, Lead Span 4.1mm, IPC Low Density)
pins: 1 OUT (power), 2 IN (power), 3 VSS (power)

## TC54VN3002EZB
designator U?
1µA Voltage Detector, Open-Drain Output, 3.0V, 3-Pin TO-92, Industrial Temperature; Manufacturer: Microchip; PartNumber: TC54VN3002EZB; DatasheetVersion: revH, Dec-2007; PackageVersion: revBB, Aug-2009; PackageReference: TO-92-ZB3; PackageDescription: 3-Lead Plastic Transistor Outline (ZB) [TO-92]; Supplier 1: Digi-Key; Supplier Part Number 1: TC54VN3002EZB-ND; Supplier 2: Farnell; Supplier Part Number 2: 1852233; Supplier 3: Newark; Supplier Part Number 3: 92C6285; Supplier 4: Mouser; Supplier Part Number 4: 579-TC54VN3002EZB; Mounting Technology: Through Hole; ComponentLink1Description: Manufacturer URL; ComponentLink1URL: http://www.microchip.com/; ComponentLink2Description: Datasheet; ComponentLink2URL: http://ww1.microchip.com/downloads/en/DeviceDoc/21434h.pdf; ComponentLink3Description: Package Specification; ComponentLink3URL: http://www.microchip.com/stellent/groups/techpub_sg/documents/packagingspec/en012702.pdf
footprint TO-92-ZB3 (TO, Flat Index; 3 In-Line, Axial Leads; Body Dia. 4.8mm; Leads 0.56 x 0.53 mm (max))
pins: 1 OUT (power), 2 IN (power), 3 VSS (power)

## TC54VN3802ECB713
designator U?
Voltage Detector, 0.2 ms Reset Pulse Width, Supply Current 1.1 uA, 0.7 to 10 V, -40 to 85 degC, 3-pin SOT-23A (CB3), Tape and Reel; Manufacturer: Microchip; PartNumber: TC54VN3802ECB713; DatasheetVersion: Rev. J; PackageVersion: C04-130B; PackageReference: SOT-23A-CB3; PackageDescription: 3-Lead Plastic Small Outline Transistor, 2.9 x 1.5 mm Body, 0.95 mm Pitch; Mounting Technology: Surface Mount; ComponentLink1Description: Manufacturer URL; ComponentLink1URL: http://www.microchip.com; ComponentLink2Description: Datasheet; ComponentLink2URL: http://ww1.microchip.com/downloads/en/DeviceDoc/21434J.pdf; ComponentLink3Description: Package Specification; ComponentLink3URL: http://www.microchip.com/stellent/groups/techpub_sg/documents/packagingspec/en012702.pdf; ComponentLink4Description: Product URL; ComponentLink4URL: http://www.microchip.com/TC54
footprint MCHP-SOT-23A-CB3_N (SOT23, 3-Leads, Body 2.9x1.5mm, Pitch 0.95mm, IPC Medium Density)
footprint MCHP-SOT-23A-CB3_L (SOT23, 3-Leads, Body 2.9x1.5mm, Pitch 0.95mm, IPC High Density)
footprint MCHP-SOT-23A-CB3_M (SOT23, 3-Leads, Body 2.9x1.5mm, Pitch 0.95mm, IPC Low Density)
pins: 1 VOUT (power) "Digital Output", 2 VSS (power) "Ground Terminal", 3 VIN (power) "Analog Input"